# Altium footprint library PCB - CONNECTOR - PHOENIX 1729160.PcbLib: 1 footprints
Each footprint in its own frame and in the unit in brackets; x right, y up, seen from the top. Pads: shape width x height; smd on the part's side, far side on the other; paste and mask are expansions set on the pad; w line width, h text height; cw(c..) or ccw(c..) is an arc to the next point about the centre after c.
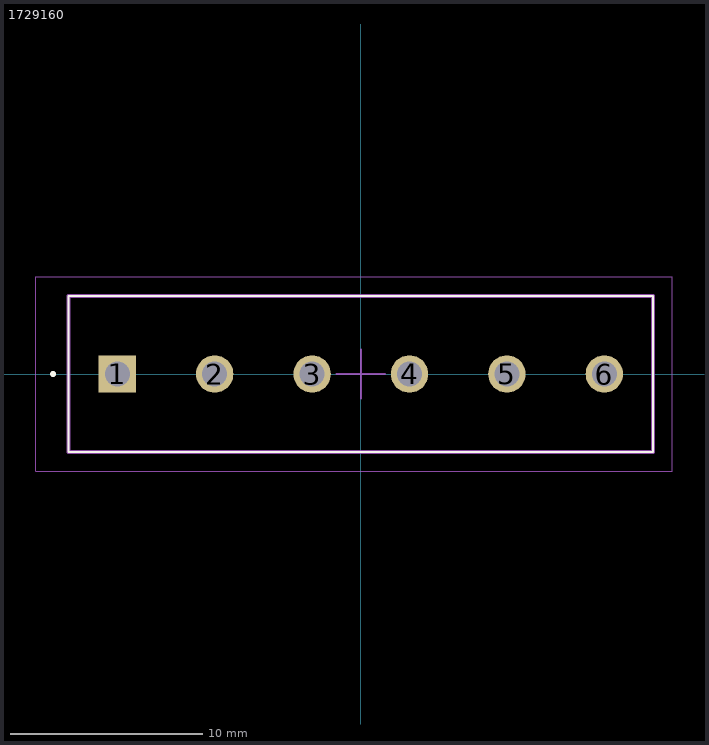
[diagram p0: the footprint, top view; thin cyan lines are the x and y axes]

## 1729160 [mm]
pads (6):
  rect 1.95x1.95 hole 1.3: 1(-12.7,0)
  round 1.95 hole 1.3: 2(-7.62,0) 3(-2.54,0) 4(2.54,0) 5(7.62,0) 6(12.7,0)
Top Overlay:
  circle w0.2: c-16.05,0 r0.05
  lines w0.1: -15.24,-4.075 -15.24,4.075 15.24,4.075 15.24,-4.075 -15.24,-4.075
Top Assembly:
  lines w0.2: -15.24,-4.075 15.24,-4.075 15.24,4.075 -15.24,4.075 -15.24,-4.075
Top Courtyard:
  lines w0.05: -16.95,-5.075 16.24,-5.075 16.24,5.075 -16.95,5.075 -16.95,-5.075
Top Designator:
  text ".Designator" at -8.128,4.699 h1.52
Top Component Center:
  lines w0.102: -1.27,0 0,0 ; 0,-1.27 0,0 ; 0,1.27 0,0 ; 1.27,0 0,0
3D body "1729160.stp": height 10, standoff -3.5, extent -15.14,-4.047 15.91,4.053